# EAGLE library part LTC3550 (library linear_tech_opendcc)
LTC3550 - Dual Input USB/AC Adapter Li-Ion Battery Charger with 600mA Buck Converter in DFN16 Charges Single-Cell Li-Ion Battery from Wall Adapter and USB Inputs Automatic Input Power Detection and Selection Charge Current Programmable Up to 950mA from Wall Adapter Input Adjustable Output, High Ef?ciency 600mA Synchronous DC/DC Converter Thermal Regulation Maximizes Charge Rate Without Risk of Overheating Preset Charge Voltage with ±0.6% Accuracy 1.5MHz Constant Frequency Operation (Step-Down Converter) 18?A USB Suspend Current in Shutdown ?Power Present? Status Output
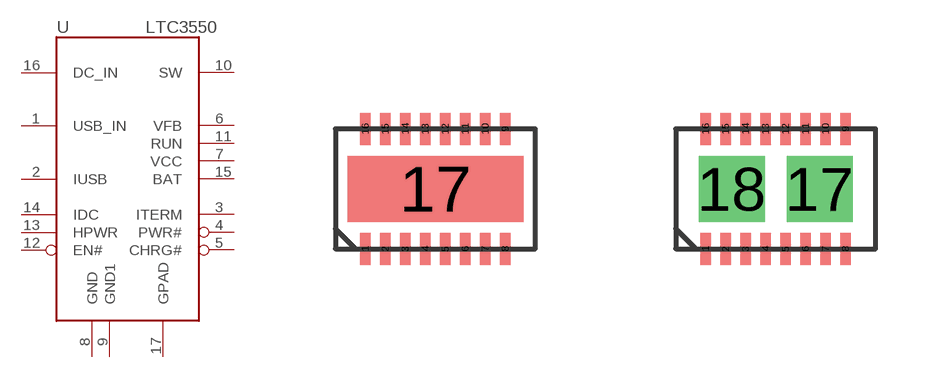
[diagram p9: symbol with the pads of DFN16; footprints DFN16, DFN16-M]

Designator prefix -

## LTC3550_SMD  [DFN16]
1  USB_IN  pas
2  IUSB  pas
3  ITERM  pas
4  PWR#  pas
5  CHRG#  pas
6  VFB  pas
7  VCC  pas
8  GND  pwr
9  GND1  pwr
10  SW  pas
11  RUN  pas
12  EN#  pas
13  HPWR  pas
14  IDC  pas
15  BAT  pas
16  DC_IN  pas
17  GPAD  pwr

## LTC3550_MAN_SOLD  [DFN16-M]
1  USB_IN  pas
2  IUSB  pas
3  ITERM  pas
4  PWR#  pas
5  CHRG#  pas
6  VFB  pas
7  VCC  pas
8  GND  pwr
9  GND1  pwr
10  SW  pas
11  RUN  pas
12  EN#  pas
13  HPWR  pas
14  IDC  pas
15  BAT  pas
16  DC_IN  pas
18  GPAD  pwr

## Footprint DFN16 (pad centres in mm)
DHC Package, 16-lead Plastic DFN 5 x 3mm (SMD only)
smd 0.26 x 0.8: 1 -1.75,-1.5; 2 -1.25,-1.5; 3 -0.75,-1.5; 4 -0.25,-1.5; 5 0.25,-1.5; 6 0.75,-1.5; 7 1.25,-1.5; 8 1.75,-1.5; 9 1.75,1.5; 10 1.25,1.5; 11 0.75,1.5; 12 0.25,1.5; 13 -0.25,1.5; 14 -0.75,1.5; 15 -1.25,1.5; 16 -1.75,1.5
smd 4.4 x 1.65: 17 0,0

## Footprint DFN16-M (pad centres in mm)
DHC Package, 16-lead Plastic DFN 5 x 3mm (Manual Solder)
smd 0.26 x 0.8: 1 -1.75,-1.5; 2 -1.25,-1.5; 3 -0.75,-1.5; 4 -0.25,-1.5; 5 0.25,-1.5; 6 0.75,-1.5; 7 1.25,-1.5; 8 1.75,-1.5; 9 1.75,1.5; 10 1.25,1.5; 11 0.75,1.5; 12 0.25,1.5; 13 -0.25,1.5; 14 -0.75,1.5; 15 -1.25,1.5; 16 -1.75,1.5
drill 1 pad 1.65 square: 17 1.1,0; 18 -1.1,0